# EAGLE library part NANO (library Skoba)
Arduino Nano
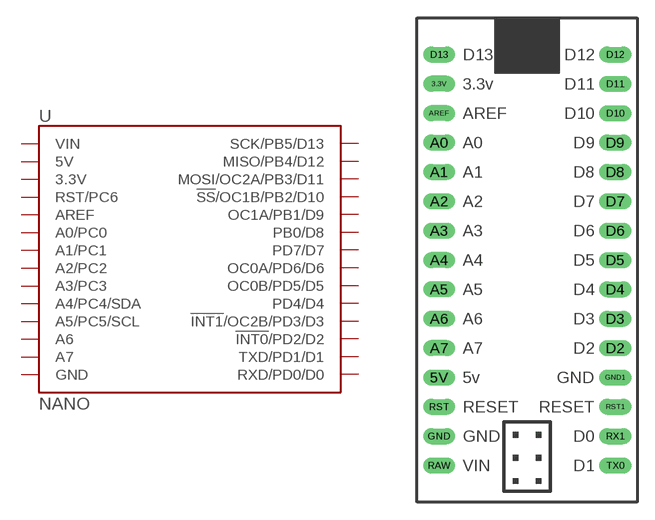
[diagram p1: symbol with the pads of NANO; footprint NANO]

Designator prefix U

## NANO  [NANO]
3.3V  3.3V
5V  5V
A0  A0/PC0
A1  A1/PC1
A2  A2/PC2
A3  A3/PC3
A4  A4/PC4/SDA
A5  A5/PC5/SCL
A6  A6
A7  A7
AREF  AREF
D2  !INT0!/PD2/D2
D3  !INT1!/OC2B/PD3/D3
D4  PD4/D4
D5  OC0B/PD5/D5
D6  OC0A/PD6/D6
D7  PD7/D7
D8  PB0/D8
D9  OC1A/PB1/D9
D10  !SS!/OC1B/PB2/D10
D11  MOSI/OC2A/PB3/D11
D12  MISO/PB4/D12
D13  SCK/PB5/D13
GND  GND
GND1  GND
RAW  VIN
RST  RST/PC6
RST1  RST/PC6
RX1  RXD/PD0/D0
TX0  TXD/PD1/D1

## Footprint NANO (pad centres in mm)
drill 0.8 pad 1.4 long: 3.3V -7.62,15.24; 5V -7.62,-10.16; A0 -7.62,10.16; A1 -7.62,7.62; A2 -7.62,5.08; A3 -7.62,2.54; A4 -7.62,0; A5 -7.62,-2.54; A6 -7.62,-5.08; A7 -7.62,-7.62; AREF -7.62,12.7; D2 7.62,-7.62; D3 7.62,-5.08; D4 7.62,-2.54; D5 7.62,0; D6 7.62,2.54; D7 7.62,5.08; D8 7.62,7.62; D9 7.62,10.16; D10 7.62,12.7; D11 7.62,15.24; D12 7.62,17.78; D13 -7.62,17.78; GND -7.62,-15.24; GND1 7.62,-10.16; RAW -7.62,-17.78; RST -7.62,-12.7; RST1 7.62,-12.7; RX1 7.62,-15.24; TX0 7.62,-17.78